# EAGLE library part 615008142121 (library WR-MJ)
WR-MJ Cat 3 Modular Jacks – THT Characteristics Shieldingless and Shielded with EMI-Spring option Optional LEDs in various sequences Vertical and Horizontal orientation Stacked and assembled configurations Tray Packaging Properties PoE++ Compatible up to 100W (IEEE 802.3bt) UL and cULus-Certified UL94-V0 insulator material Ethernet Category 3 – Category 5 under conditions Applications Networks Internet of Things mart Buildings <https://www.we-online.com/components/media/o863419v209%20multi-WR-MJTH-615002138421.jpg> Details see: www.we-online.com/en/components/products/WR_MJ_MODULAR_JACKS_THT <www.we-online.com/catalog/WR_MJ_MODULAR_JACKS_THT/?utm_source=eagle_model&utm_medium=description_link&utm_campaign=eisos_eagle> Updated by Yingchun Shan 2020-01-06 2020(C) Würth Elektronik
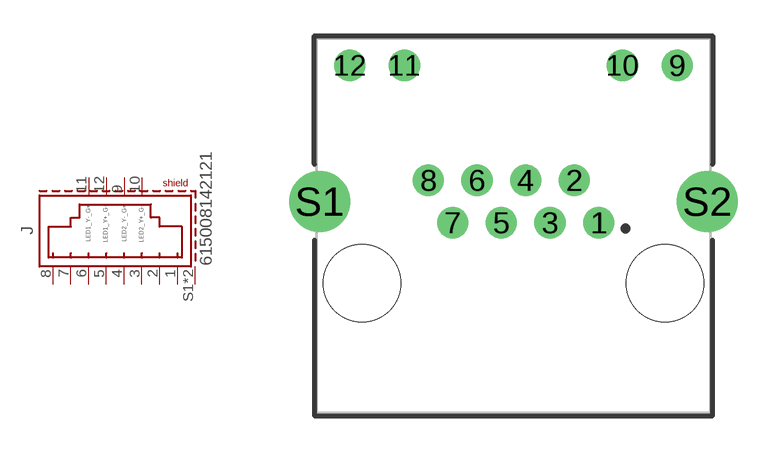
[diagram p40: symbol with the pads of 615008142121; footprint 615008142121]

Designator prefix J

## 615008142121 (APPLICATION-SYSTEM: CAT 3; DATASHEET-URL: https://www.we-online.com/redexpert/spec/615008142121?ae; EMI: Yes; LED: 2xBipolar Y/G; MOUNT: THT; PART-NUMBER: 615008142121; SIZE: Horizontal; TAB: Up; VALUE: 615008142121; XPXC: 8P8C)  [615008142121]
1  1  pas
2  2  pas
3  3  pas
4  4  pas
5  5  pas
6  6  pas
7  7  pas
8  8  pas
9  G+Y-_2  pas
10  G-Y+_2  pas
11  G+Y-_1  pas
12  G-Y+_1  pas
S1  SHIELD  pas
S2  SHIELD  pas

## Footprint 615008142121 (pad centres in mm)
WR-MJ Modular Jack Tab Up, 8 Pins
drill 0.8: 1 3.57,0.125; 2 2.55,1.905; 3 1.53,0.125; 4 0.51,1.905; 5 -0.51,0.125; 6 -1.53,1.905; 7 -2.55,0.125; 8 -3.57,1.905; 9 6.86,6.725; 10 4.57,6.725; 11 -4.57,6.725; 12 -6.86,6.725
drill 1.7: S1 -8.125,1.015; S2 8.125,1.015
hole 3.25 at -6.35,-2.415
hole 3.25 at 6.35,-2.415